# Altium schematic symbol library SN_Schlib.SchLib: 4 symbols
Pins are listed as number, name and electrical type; pins without a type are passive.

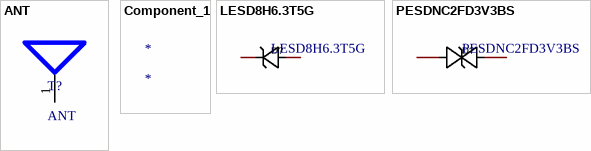
[diagram p0: symbols ANT to PESDNC2FD3V3BS]

## ANT
designator T?
footprint ANT-TH_BWGNSCNX20-20W4
pins: 1

## Component_1
designator *

## LESD8H6.3T5G
designator D?
Manufacturer: LRC(乐山无线电); Add into BOM: yes; Polarity: 单向; Reverse Stand-Off Voltage (Vrwm): 6.3V; Breakdown Voltage: 7V; Peak Pulse Current (Ipp)@10/1000μs: 21A@8/20us; Maximum Clamping Voltage: 11V; Name: LESD8H6.3T5G; Symbol: LESD8H6.3T5G; Device: LESD8H6.3T5G; LCSC Part Name: 单向 Vrwm:6.3V; Supplier Part: C383220; Manufacturer Part: LESD8H6.3T5G; Supplier Footprint: SOD-882; JLCPCB Part Class: Extended Part; Datasheet: https://atta.szlcsc.com/upload/public/pdf/source/20200318/C383220_68B8019F200972B4456FCD3E4DB778A0.pdf; Supplier: LCSC; Convert to PCB: yes
footprint SOD-882_L1.0-W0.6-R-RD
pins: 1 A, 2 K

## PESDNC2FD3V3BS
designator D?
Manufacturer: LRC(乐山无线电); Name: LESD8H6.3T5G; Add into BOM: yes; Polarity: 单向; Reverse Stand-Off Voltage (Vrwm): 6.3V; Breakdown Voltage: 7V; Peak Pulse Current (Ipp)@10/1000μs: 21A@8/20us; Maximum Clamping Voltage: 11V; Symbol: LESD8H6.3T5G; Device: LESD8H6.3T5G; LCSC Part Name: 单向 Vrwm:6.3V; Supplier Part: C383220; Manufacturer Part: LESD8H6.3T5G; Supplier Footprint: SOD-882; JLCPCB Part Class: Extended Part; Datasheet: https://atta.szlcsc.com/upload/public/pdf/source/20200318/C383220_68B8019F200972B4456FCD3E4DB778A0.pdf; Supplier: LCSC; Convert to PCB: yes
footprint DFN1006-2L-BI
pins: 1 A, 2 K